# Altium schematic symbol library energie.SchLib: 12 symbols
Pins are listed as number, name and electrical type; pins without a type are passive.

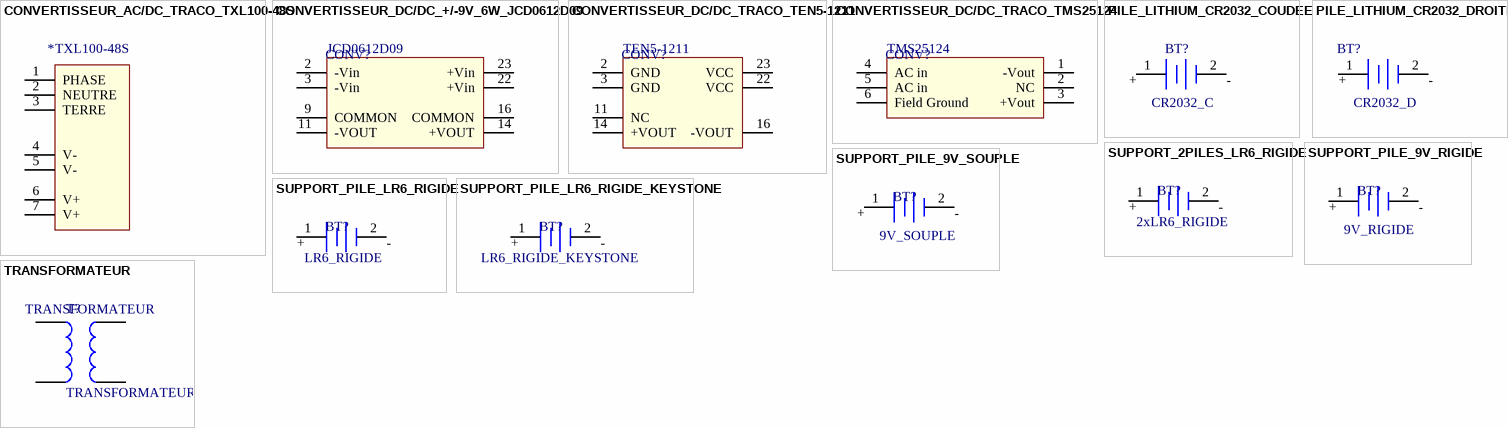
[diagram p0: symbols CONVERTISSEUR_AC/DC_TRACO_TXL100-48S to TRANSFORMATEUR]

## CONVERTISSEUR_AC/DC_TRACO_TXL100-48S
designator *, comment Type: TXL100-48S  (hidden comment: COTRACO_TXL100-48S)
CONVERTISSEUR AC/DC_TRACO_IN:230Vac - OUT: 48V_100W
pins: 1 PHASE, 2 NEUTRE, 3 TERRE, 4 V-, 5 V-, 6 V+, 7 V+

## CONVERTISSEUR_DC/DC_+/-9V_6W_JCD0612D09
designator CONV?, comment JCD0612D09_XP POWER  (value not drawn)
CONVERTISSEUR DC/DC_+/-9V_6W_JCD0612D09_XP POWER
footprint CONVERTISSEUR_DC/DC-XP POWER_JCD0612D09
pins: 2 -Vin, 3 -Vin, 9 COMMON, 11 -VOUT, 14 +VOUT, 16 COMMON, 22 +Vin, 23 +Vin
text: JCD0612D09

## CONVERTISSEUR_DC/DC_TRACO_TEN5-1211
designator CONV?, comment TRACO_TEN5-1211  (value not drawn)
CONVERTISSEUR DC/DC_TRACO_IN:9 A 18V - OUT: 5V_6W
footprint CONVERTISSEUR_DC/DC-TRACO_TEN5-1211
pins: 2 GND, 3 GND, 11 NC, 14 +VOUT, 16 -VOUT, 22 VCC, 23 VCC
text: TEN5-1211

## CONVERTISSEUR_DC/DC_TRACO_TMS25124
designator CONV?, comment TRACO_TMS25124  (value not drawn)
CONVERTISSEUR AC/DC_TRACO_IN:230Vac - OUT: 24V_25W
pins: 1 -Vout, 2 NC, 3 +Vout, 4 AC in, 5 AC in, 6 Field Ground
text: TMS25124

## PILE_LITHIUM_CR2032_COUDEE
designator BT?, comment Type: CR2032_C  (hidden comment: PILE_CR2032_COUDEE)
PILE AU LITHIUM TYPE CR2032 COUDEE
footprint PILE_CR2032_HORIZ (Pile Lithium; CR2032; Horizontal; Fix:18mm/10.16mm)
pins: 1 +, 2 -

## PILE_LITHIUM_CR2032_DROITE
designator BT?, comment Type: CR2032_D  (hidden comment: PILE_CR2032_DROITE)
PILE AU LITHIUM TYPE CR2032 DROITE
footprint PILE_CR2032_DROIT (Pile Lithium; CR2032; Vertical; 10X4.2mm:Fix; Diameter:21.5)
pins: 1 +, 2 -

## SUPPORT_2PILES_LR6_RIGIDE
designator BT?, comment Type: 2xLR6_RIGIDE  (hidden comment: SUPPORT_2PILES_LR6)
SUPPORT 2 PILES LR6 RIGIDE
footprint SUPPORT_2_PILES_LR6 (Connector; 2 Position; Pin Spacing=2.54mm; SIP2)
pins: 1 +, 2 -

## SUPPORT_PILE_9V_RIGIDE
designator BT?  Type: 9V_RIGIDE  (hidden comment: SUPPORT_PILE_9V_RIGIDE)
SUPPORT DE PILE 9V RIGIDE
footprint SUPPORT_RIGIDE_PILE_9V
pins: 1, 2
text: +; -

## SUPPORT_PILE_9V_SOUPLE
designator BT?  Type: 9V_SOUPLE  (hidden comment: SUPPORT_PILE_9V_SOUPLE)
SUPPORT DE PILE 9V SOUPLE
footprint SUPPORT_SOUPLE_PILE_9V (Connector; 2 Position; Pin Spacing=2.54mm; SIP2)
pins: 1 +, 2 -

## SUPPORT_PILE_LR6_RIGIDE
designator BT?, comment Type: LR6_RIGIDE  (hidden comment: SUPPORT_PILE_LR6)
SUPPORT PILE LR6 RIGIDE
footprint SUPPORT_1_PILE_LR6
pins: 1 +, 2 -

## SUPPORT_PILE_LR6_RIGIDE_KEYSTONE
designator BT?, comment Type: LR6_RIGIDE_KEYSTONE  (hidden comment: SUPPORT_PILE_LR6)
SUPPORT PILE LR6 RIGIDE
pins: 1 +, 2 -

## TRANSFORMATEUR
designator T?
Type: TRANSFORMATEUR
simulation model TRANSFORMER (Transformer)
pins: 1, 2, 3, 4